# EAGLE library part HT16K33_SOP24 (library microbuilder)
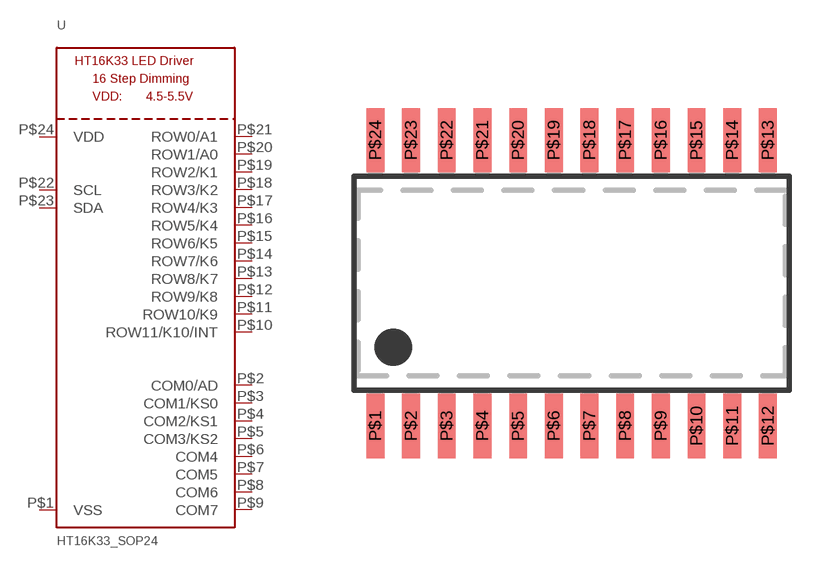
[diagram p178: symbol with the pads of SOP24_300MIL; footprint SOP24_300MIL]

Designator prefix U

## HT16K33_SOP24  [SOP24_300MIL]
P$1  VSS
P$2  COM0/AD
P$3  COM1/KS0
P$4  COM2/KS1
P$5  COM3/KS2
P$6  COM4
P$7  COM5
P$8  COM6
P$9  COM7
P$10  ROW11/K10/INT
P$11  ROW10/K9
P$12  ROW9/K8
P$13  ROW8/K7
P$14  ROW7/K6
P$15  ROW6/K5
P$16  ROW5/K4
P$17  ROW4/K3
P$18  ROW3/K2
P$19  ROW2/K1
P$20  ROW1/A0
P$21  ROW0/A1
P$22  SCL
P$23  SDA
P$24  VDD

## Footprint SOP24_300MIL (pad centres in mm)
smd 0.635 x 2.286: P$1 -6.985,-5.08; P$2 -5.715,-5.08; P$3 -4.445,-5.08; P$4 -3.175,-5.08; P$5 -1.905,-5.08; P$6 -0.635,-5.08; P$7 0.635,-5.08; P$8 1.905,-5.08; P$9 3.175,-5.08; P$10 4.445,-5.08; P$11 5.715,-5.08; P$12 6.985,-5.08; P$13 6.985,5.08; P$14 5.715,5.08; P$15 4.445,5.08; P$16 3.175,5.08; P$17 1.905,5.08; P$18 0.635,5.08; P$19 -0.635,5.08; P$20 -1.905,5.08; P$21 -3.175,5.08; P$22 -4.445,5.08; P$23 -5.715,5.08; P$24 -6.985,5.08